# Altium schematic symbol library HW_ADHERENT_SYSCTRL_R1_L1.SchLib: 521 symbols (part 8 of 8)
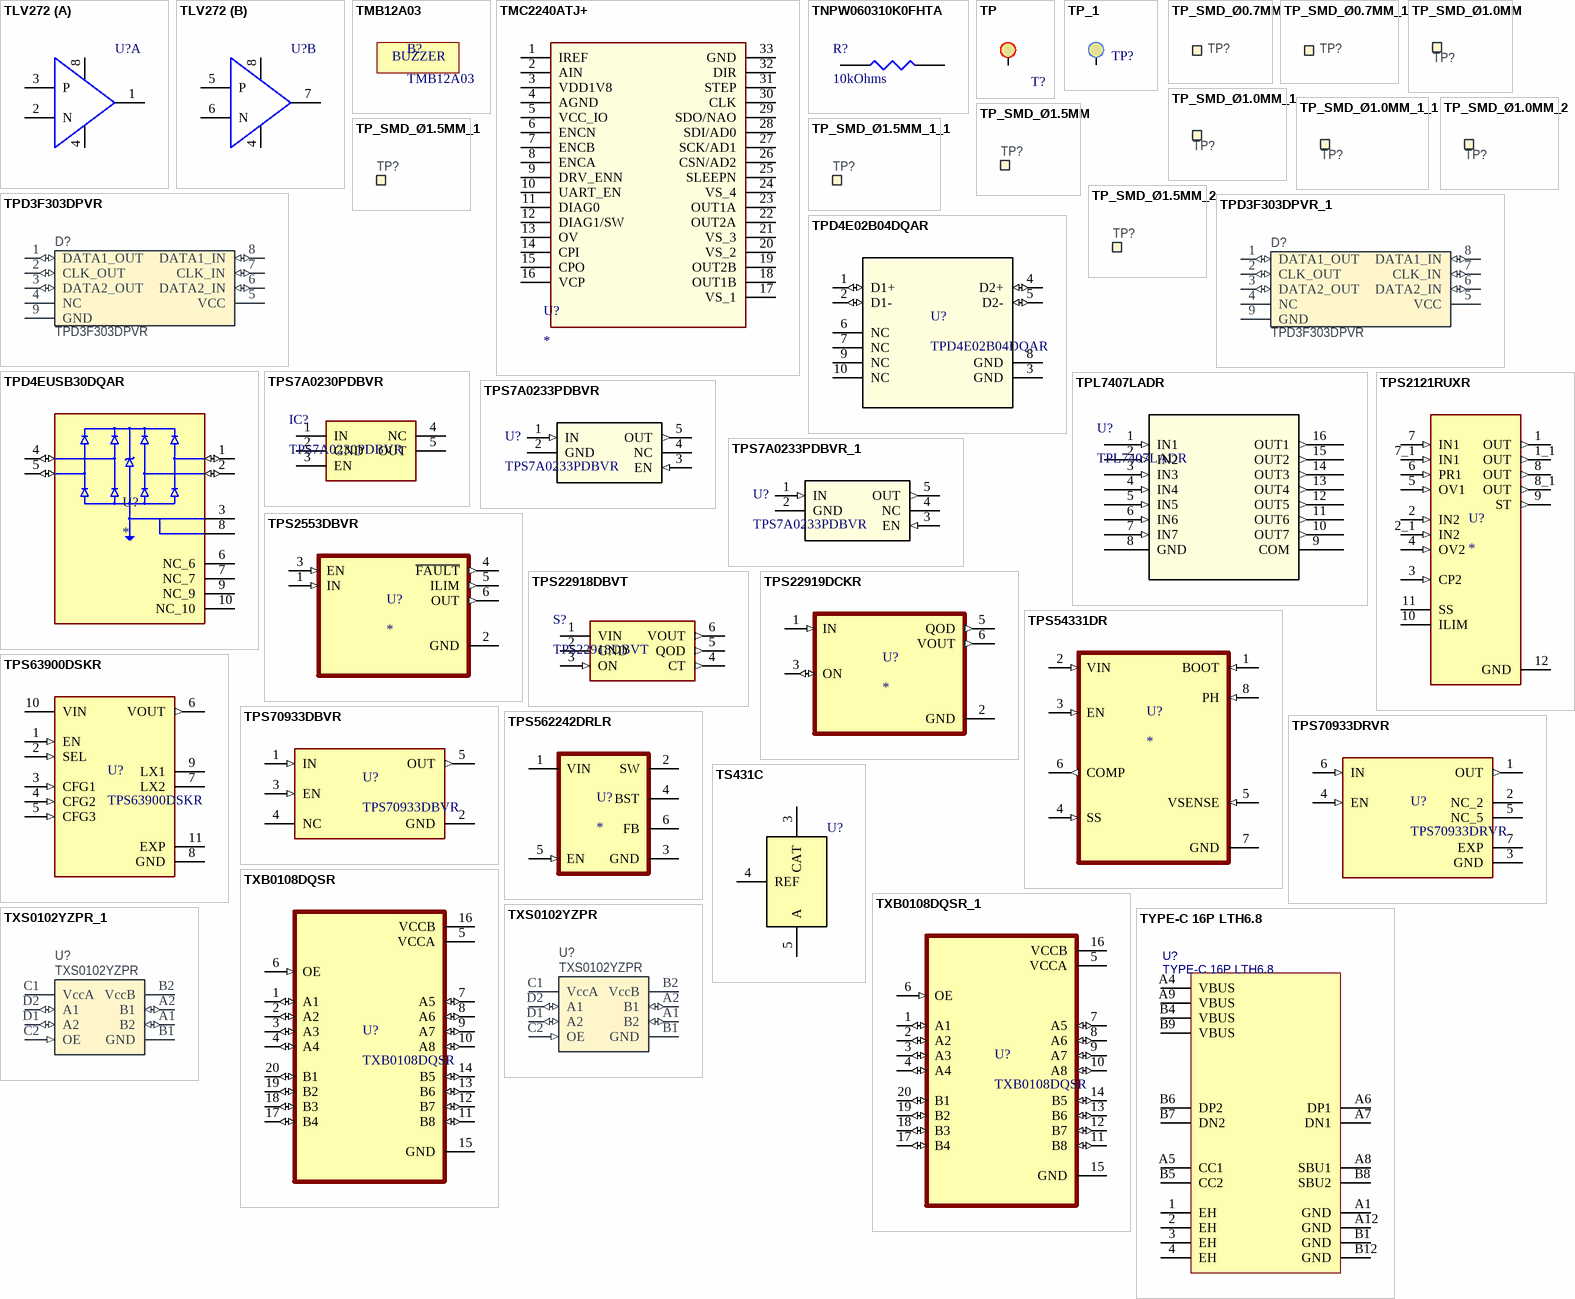
[diagram p22: symbols TLV272 to TYPE-C 16P LTH6.8]

## TP_SMD_Ø1.0MM_1_1
designator TP?, comment Ø1.0mm,SMD  (value not drawn)  (no BOM)
1.0mm circular SMD testpad; Part Number: TP_SMD_Ø1.0MM; Manufacturer: Nordic Semiconductor; Manufacturer Part Number: N.A.; Part number NEMS: 100500475; Pad Count: 1; Component Status: Active; System: Connector; PartId: 100500475; Component Class: Connectors; ComponentLink1URL: N.A.; ComponentLink1Description: Datasheet; ComponentLink2URL: N.A.; ComponentLink2Description: Supplier link; HelpURL: N.A.; Footprint Doc: TP_SMD_Ø1.0mm; LatestRevisionDate: 2021-03-05; Published: 2013-06-11; Value: Ø1.0mm,SMD; Note: N.A.; Supplier 1: N.A.; Supplier Part Number 1: N.A.; Supplier 2: N.A.; Supplier Part Number 2: N.A.; Artikkelnr Noca: N.A.; Part number IPS: N.A.; Author: rsk; Part number Norautron: N.A.
footprint TP_SMD_D1.0mm
pins: 1

## TP_SMD_Ø1.0MM_2
designator TP?, comment Ø1.0mm,SMD  (value not drawn)  (no BOM)
1.0mm circular SMD testpad; Part Number: TP_SMD_Ø1.0MM; Manufacturer: Nordic Semiconductor; Manufacturer Part Number: N.A.; Part number NEMS: 100500475; Pad Count: 1; Component Status: Active; PartId: 100500475; Component Class: Connectors; ComponentLink1URL: N.A.; ComponentLink1Description: Datasheet; ComponentLink2URL: N.A.; ComponentLink2Description: Supplier link; HelpURL: N.A.; Footprint Doc: TP_SMD_Ø1.0mm; LatestRevisionDate: 2021-03-05; Published: 2013-06-11; Value: Ø1.0mm,SMD; Note: N.A.; Supplier 1: N.A.; Supplier Part Number 1: N.A.; Supplier 2: N.A.; Supplier Part Number 2: N.A.; Artikkelnr Noca: N.A.; Part number IPS: N.A.; Author: rsk; Part number Norautron: N.A.
footprint TP_SMD_D1.0mm
pins: 1

## TP_SMD_Ø1.5MM
designator TP?, comment Ø1.5mm,SMD  (value not drawn)  (no BOM)
1.5mm circular SMD testpad; Part Number: TP_SMD_Ø1.5MM; Manufacturer: Nordic Semiconductor; Manufacturer Part Number: N.A.; Part number NEMS: 100500477; Pad Count: 1; Component Status: Active; Footprint Doc: TP_SMD_Ø1.5mm; LatestRevisionDate: 2021-03-05; Published: 2016-06-02; Value: Ø1.5mm,SMD; Note: N.A.; Artikkelnr Noca: N.A.; Part number IPS: N.A.; ComponentLink1URL: N.A.; ComponentLink1Description: Datasheet; ComponentLink2URL: N.A.; ComponentLink2Description: Supplier link; HelpURL: N.A.; Supplier 1: N.A.; Supplier Part Number 1: N.A.; Supplier 2: N.A.; Supplier Part Number 2: N.A.; PartId: 100500477; Component Class: Connectors; Author: rsk; Part number Norautron: N.A.
footprint TP_SMD_D1.5mm
pins: 1

## TP_SMD_Ø1.5MM_1
designator TP?, comment Ø1.5mm,SMD  (value not drawn)  (no BOM)
1.5mm circular SMD testpad; Part Number: TP_SMD_Ø1.5MM; Manufacturer: Nordic Semiconductor; Manufacturer Part Number: N.A.; Part number NEMS: 100500477; Pad Count: 1; Component Status: Active; System: Connector; Footprint Doc: TP_SMD_Ø1.5mm; LatestRevisionDate: 2021-03-05; Published: 2016-06-02; Value: Ø1.5mm,SMD; Note: N.A.; Artikkelnr Noca: N.A.; Part number IPS: N.A.; ComponentLink1URL: N.A.; ComponentLink1Description: Datasheet; ComponentLink2URL: N.A.; ComponentLink2Description: Supplier link; HelpURL: N.A.; Supplier 1: N.A.; Supplier Part Number 1: N.A.; Supplier 2: N.A.; Supplier Part Number 2: N.A.; PartId: 100500477; Component Class: Connectors; Author: rsk; Part number Norautron: N.A.
footprint TP_SMD_D1.5mm
pins: 1

## TP_SMD_Ø1.5MM_1_1
designator TP?, comment Ø1.5mm,SMD  (value not drawn)  (no BOM)
1.5mm circular SMD testpad; Part Number: TP_SMD_Ø1.5MM; Manufacturer: Nordic Semiconductor; Manufacturer Part Number: N.A.; Part number NEMS: 100500477; Pad Count: 1; Component Status: Active; System: Connector; Footprint Doc: TP_SMD_Ø1.5mm; LatestRevisionDate: 2021-03-05; Published: 2016-06-02; Value: Ø1.5mm,SMD; Note: N.A.; Artikkelnr Noca: N.A.; Part number IPS: N.A.; ComponentLink1URL: N.A.; ComponentLink1Description: Datasheet; ComponentLink2URL: N.A.; ComponentLink2Description: Supplier link; HelpURL: N.A.; Supplier 1: N.A.; Supplier Part Number 1: N.A.; Supplier 2: N.A.; Supplier Part Number 2: N.A.; PartId: 100500477; Component Class: Connectors; Author: rsk; Part number Norautron: N.A.
footprint TP_SMD_D1.5mm
pins: 1

## TP_SMD_Ø1.5MM_2
designator TP?, comment Ø1.5mm,SMD  (value not drawn)  (no BOM)
1.5mm circular SMD testpad; Part Number: TP_SMD_Ø1.5MM; Manufacturer: Nordic Semiconductor; Manufacturer Part Number: N.A.; Part number NEMS: 100500477; Pad Count: 1; Component Status: Active; Footprint Doc: TP_SMD_Ø1.5mm; LatestRevisionDate: 2021-03-05; Published: 2016-06-02; Value: Ø1.5mm,SMD; Note: N.A.; Artikkelnr Noca: N.A.; Part number IPS: N.A.; ComponentLink1URL: N.A.; ComponentLink1Description: Datasheet; ComponentLink2URL: N.A.; ComponentLink2Description: Supplier link; HelpURL: N.A.; Supplier 1: N.A.; Supplier Part Number 1: N.A.; Supplier 2: N.A.; Supplier Part Number 2: N.A.; PartId: 100500477; Component Class: Connectors; Author: rsk; Part number Norautron: N.A.
footprint TP_SMD_D1.5mm
pins: 1

## TPD3F303DPVR
designator D?
ESD Protection and EMI Filter for SIM Card Interface; Manufacturer: Texas Instruments; Part number NEMS: 101900729; Note: N.A.; Pad Count: 8; Component Status: Active; Part Number: TPD3F303DPVR; Manufacturer Part Number: TPD3F303DPVR; Footprint Doc: USON-8; LatestRevisionDate: 2022-10-19; Published: 2022-10-19; Value: TPD3F303DPVR; Artikkelnr Noca: N.A.; ComponentLink1URL: https://www.ti.com/lit/ds/symlink/tpd3f303.pdf; ComponentLink1Description: Datasheet; ComponentLink2URL: https://www.digikey.com/en/products/detail/texas-instruments/TPD3F303DPVR/2605055; ComponentLink2Description: Supplier link; HelpURL: https://www.ti.com/product/TPD3F303/part-details/TPD3F303DPVR; Supplier 1: Digi-Key; Supplier Part Number 1: 296-28299-1-ND; Supplier 2: Mouser; Supplier Part Number 2: 595-TPD3F303DPVR; Part number IPS: N.A.; PartId: 101900729; Component Class: Misc_ICs; Author: rubr; Part number Norautron: N.A.
footprint SON50P210X160X65_HS-9N
pins: 1 DATA1_OUT (io), 2 CLK_OUT (io), 3 DATA2_OUT (io), 4 NC, 5 VCC (power), 6 DATA2_IN (io), 7 CLK_IN (io), 8 DATA1_IN (io), 9 GND (power)

## TPD3F303DPVR_1
designator D?, comment TPD3F303DPVR
ESD Protection and EMI Filter for SIM Card Interface; Manufacturer: Texas Instruments; Part number NEMS: 101900729; Note: N.A.; Pad Count: 8; Component Status: Active; Part Number: TPD3F303DPVR; Manufacturer Part Number: TPD3F303DPVR; Footprint Doc: USON-8; LatestRevisionDate: 2022-10-19; Published: 2022-10-19; Value: TPD3F303DPVR; Artikkelnr Noca: N.A.; ComponentLink1URL: https://www.ti.com/lit/ds/symlink/tpd3f303.pdf; ComponentLink1Description: Datasheet; ComponentLink2URL: https://www.digikey.com/en/products/detail/texas-instruments/TPD3F303DPVR/2605055; ComponentLink2Description: Supplier link; HelpURL: https://www.ti.com/product/TPD3F303/part-details/TPD3F303DPVR; Supplier 1: Digi-Key; Supplier Part Number 1: 296-28299-1-ND; Supplier 2: Mouser; Supplier Part Number 2: 595-TPD3F303DPVR; Part number IPS: N.A.; PartId: 101900729; Component Class: Misc_ICs; Author: rubr; Part number Norautron: N.A.
footprint SON50P210X160X65_HS-9N
pins: 1 DATA1_OUT (io), 2 CLK_OUT (io), 3 DATA2_OUT (io), 4 NC, 5 VCC (power), 6 DATA2_IN (io), 7 CLK_IN (io), 8 DATA1_IN (io), 9 GND (power)

## TPD4E02B04DQAR
designator U?
Quad 0.25-pF, Â±3.6-V, Â±12-kV ESD protection diode for USB 3.0,  HDMI 2.0 & High Speed Signals 10-USON -40 to 125; Manufacturer_Name: Texas Instruments; CompType: IC; TYPE: TYPE; RefDes: RefDes; Copyright: Copyright (C) 2025 Ultra Librarian. All rights reserved.; Manufacturer_Part_Number: TPD4E02B04DQAR; Application_BuildNumber: *; PartNumber: TPD4E02B04DQAR; PackageReference: DQA0010A; MountType: SMT; RoHS: Y; Manufacturer: Texas Instruments
footprint DQA0010A
pins: 1 D1+ (io), 2 D1- (io), 3 GND (power), 4 D2+ (io), 5 D2- (io), 6 NC, 7 NC, 8 GND (power), 9 NC, 10 NC

## TPD4EUSB30DQAR
designator U?
4-channel ESD solution for SuperSpeed (6 Gbps) USB 3.0 interface 10-USON -40 to 85; MP: TPD4EUSB30DQAR; Value: *; Package: None; Price: None; Availability: Unavailable
footprint IC_TPD4EUSB30DQAR
pins: 1 D1+ (io), 2 D1- (io), 3 GND_3 (power), 4 D2+ (io), 5 D2- (io), 6 NC_6, 7 NC_7, 8 GND_8 (power), 9 NC_9, 10 NC_10

## TPL7407LADR
designator U?
30-V, 7-ch NMOS array low-side driver 16-SOIC -40 to 125; Manufacturer_Name: Texas Instruments; Copyright: Copyright (C) 2026 Ultra Librarian. All rights reserved.; Manufacturer_Part_Number: TPL7407LADR; Datasheet: https://www.ti.com/lit/gpn/tpl7407la; RefDes: RefDes; Type: Type
footprint D16_TEX
pins: 1 IN1 (in), 2 IN2 (in), 3 IN3 (in), 4 IN4 (in), 5 IN5 (in), 6 IN6 (in), 7 IN7 (in), 8 GND (power), 9 COM, 10 OUT7 (out), 11 OUT6 (out), 12 OUT5 (out), 13 OUT4 (out), 14 OUT3 (out), 15 OUT2 (out), 16 OUT1 (out)

## TPS7A0230PDBVR
designator IC?
Linear Voltage Regulator IC Positive Fixed 1 Output 200mA SOT-23-5; Manufacturer_Name: Texas Instruments; Datasheet Link: https://www.ti.com/lit/gpn/TPS7A02; Height: 1.45mm; Manufacturer_Part_Number: TPS7A0230PDBVR; Mouser Part Number: 595-TPS7A0230PDBVR; Mouser Price/Stock: https://www.mouser.co.uk/ProductDetail/Texas-Instruments/TPS7A0230PDBVR?qs=OlC7AqGiEDnndYJaykm%252BtA%3D%3D; Arrow Part Number: TPS7A0230PDBVR; Arrow Price/Stock: https://www.arrow.com/en/products/tps7a0230pdbvr/texas-instruments?utm_currency=USD&region=nac
footprint SOT95P280X145-5N
pins: 1 IN, 2 GND, 3 EN, 4 NC, 5 OUT

## TPS7A0233PDBVR
designator U?
200mA, nanopower-IQ (25 nA), low-dropout (LDO) voltage regulator with enable 5-SOT-23 -40 to 125; Manufacturer_Name: Texas Instruments; Copyright: Copyright (C) 2025 Ultra Librarian. All rights reserved.; Manufacturer_Part_Number: TPS7A0233PDBVR; RefDes: RefDes; Type: Type
footprint SOT23_DBV_TEX
pins: 1 IN (in), 2 GND (power), 3 EN (in), 4 NC, 5 OUT (out)

## TPS7A0233PDBVR_1
designator U?, comment TPS7A0233PDBVR
200mA, nanopower-IQ (25 nA), low-dropout (LDO) voltage regulator with enable 5-SOT-23 -40 to 125; Manufacturer_Name: Texas Instruments; Copyright: Copyright (C) 2025 Ultra Librarian. All rights reserved.; Manufacturer_Part_Number: TPS7A0233PDBVR; RefDes: RefDes; Type: Type
footprint SOT23_DBV_TEX
pins: 1 IN (in), 2 GND (power), 3 EN (in), 4 NC, 5 OUT (out)

## TPS2121RUXR
designator U?
2.7-V&nbsp;to 22-V, 56-mâ„¦, 4.5-A, power mux with seamless switchover; MF: Texas Instruments; MP: TPS2121RUXR; Package: VQFN-HR-12 Texas Instruments; Price: None; Check_prices: https://www.snapeda.com/parts/TPS2121RUXR/Texas+Instruments/view-part/?ref=eda; Value: *; SnapEDA_Link: https://www.snapeda.com/parts/TPS2121RUXR/Texas+Instruments/view-part/?ref=snap; Availability: In Stock; Purchase-URL: https://pricing.snapeda.com/search?q=TPS2121RUXR&ref=eda
footprint IC_TPS2121RUXR
pins: 1 OUT (out), 1_1 OUT (out), 2 IN2 (in), 2_1 IN2 (in), 3 CP2 (in), 4 OV2 (in), 5 OV1 (in), 6 PR1 (in), 7 IN1 (in), 7_1 IN1 (in), 8 OUT (out), 8_1 OUT (out), 9 ST (out), 10 ILIM, 11 SS, 12 GND (power)

## TPS2553DBVR
designator U?
0.075-1.7A adj. ILIMIT, 2.5-6.5V, 85mÎ© USB power switch, active-high, reverse blocking; MF: Texas Instruments; MP: TPS2553DBVR; SnapEDA_Link: https://www.snapeda.com/parts/TPS2553DBVR/Texas+Instruments/view-part/?ref=snap; Package: SOT-23-6 Texas Instruments; Value: *; Check_prices: https://www.snapeda.com/parts/TPS2553DBVR/Texas+Instruments/view-part/?ref=eda
footprint SOT95P280X145-6N
pins: 1 IN (in), 2 GND (power), 3 EN (in), 4 ~{FAULT} (out), 5 ILIM (out), 6 OUT (out)

## TPS22918DBVT
designator S?
Power Switch/Driver 1:1 N-Channel 2A SOT-23-6; Manufacturer_Name: Texas Instruments; Datasheet Link: http://www.ti.com/lit/gpn/tps22918; Height: 1.45mm; Manufacturer_Part_Number: TPS22918DBVT; Mouser Part Number: 595-TPS22918DBVT; Mouser Price/Stock: https://www.mouser.co.uk/ProductDetail/Texas-Instruments/TPS22918DBVT?qs=f4l5qYp%2Fy%252B5OmR4LO0ZvPg%3D%3D; Arrow Part Number: TPS22918DBVT; Arrow Price/Stock: https://www.arrow.com/en/products/tps22918dbvt/texas-instruments.html?utm_currency=USD&region=nac
footprint SOT95P280X145-6N
pins: 1 VIN (power), 2 GND (power), 3 ON (in), 4 CT (out), 5 QOD (out), 6 VOUT (out)

## TPS22919DCKR
designator U?
5.5-V, 1.5-A, 90-mÎ© load switch with adj. output discharge; MF: Texas Instruments; MP: TPS22919DCKR; SnapEDA_Link: https://www.snapeda.com/parts/TPS22919DCKR/Texas+Instruments/view-part/?ref=snap; Package: SOT-SC70-6 Texas Instruments; Value: *; Check_prices: https://www.snapeda.com/parts/TPS22919DCKR/Texas+Instruments/view-part/?ref=eda
footprint SOT65P210X110-6N
pins: 1 IN (in), 2 GND (power), 3 ON (io), 5 QOD (out), 6 VOUT (out)

## TPS54331DR
designator U?
3.5V to 28V Input, 3A, 570kHz Step-Down Converter with Eco-mode; MF: Texas Instruments; MP: TPS54331DR; Purchase-URL: https://pricing.snapeda.com/search/part/TPS54331DR/?ref=eda; Package: SOIC-8 Texas Instruments; Price: None; Availability: In Stock; Value: *
footprint SOIC127P599X175-8N
pins: 1 BOOT (in), 2 VIN (in), 3 EN (in), 4 SS (in), 5 VSENSE (in), 6 COMP (out), 7 GND (power), 8 PH (in)

## TPS63900DSKR
designator U?
1.8-V to 5.5-V, 75-nA IQ buck-boost converter with input current limit and Dynamic Voltage Scaling; MF: Texas Instruments; SnapEDA_Link: https://www.snapeda.com/parts/TPS63900DSKR/Texas+Instruments/view-part/?ref=snap; Package: WSON-10 Texas Instruments; Value: *; MP: TPS63900DSKR; Check_prices: https://www.snapeda.com/parts/TPS63900DSKR/Texas+Instruments/view-part/?ref=eda
footprint IC_TPS63900DSKR
pins: 1 EN (in), 2 SEL (in), 3 CFG1 (in), 4 CFG2 (in), 5 CFG3 (in), 6 VOUT (out), 7 LX2, 8 GND (power), 9 LX1, 10 VIN (power), 11 EXP (power)

## TPS70933DBVR
designator U?
150-mA, 30-V, ultra-low-IQ, low-dropout voltage regulator with reverse current protection and enable; MF: Texas Instruments; SnapEDA_Link: https://www.snapeda.com/parts/TPS70933DBVR/Texas+Instruments/view-part/?ref=snap; Package: SOT-23-5 Texas Instruments; Value: *; MP: TPS70933DBVR; Check_prices: https://www.snapeda.com/parts/TPS70933DBVR/Texas+Instruments/view-part/?ref=eda; LCSC: C89347
footprint SOT95P280X145-5N
pins: 1 IN (in), 2 GND (power), 3 EN (in), 4 NC, 5 OUT (out)

## TPS70933DRVR
designator U?
150-mA, 30-V, ultra-low-IQ, low-dropout voltage regulator with reverse current protection and enable; MF: Texas Instruments; SnapEDA_Link: https://www.snapeda.com/parts/TPS70933DRVR/Texas+Instruments/view-part/?ref=snap; Package: WSON-6 Texas Instruments; Value: *; MP: TPS70933DRVR; Check_prices: https://www.snapeda.com/parts/TPS70933DRVR/Texas+Instruments/view-part/?ref=eda; LCSC: C165164
footprint SON65P200X200X80-7N
pins: 1 OUT (out), 2 NC_2, 3 GND (power), 4 EN (in), 5 NC_5, 6 IN (in), 7 EXP (power)

## TPS562242DRLR
designator U?
3-V to 17-V input voltage, 2-A, 1.4-MHz synchronous buck converter in SOT563; MF: Texas Instruments; MP: TPS562242DRLR; SnapEDA_Link: https://www.snapeda.com/parts/TPS562242DRLR/Texas+Instruments/view-part/?ref=snap; Package: SOT-5X3-6 Texas Instruments; Value: *; Check_prices: https://www.snapeda.com/parts/TPS562242DRLR/Texas+Instruments/view-part/?ref=eda
footprint SOT50P160X60-6N
pins: 1 VIN (power), 2 SW (power), 3 GND (power), 4 BST, 5 EN (in), 6 FB

## TS431C
designator U?
footprint SOT-25
pins: 3 CAT, 4 REF, 5 A

## TXB0108DQSR
designator U?
8-Bit Bidirectional Voltage-Level Shifter with Auto Direction Sensing and +/-15-kV ESD Protect 20-USON -40 to 85; MF: Texas Instruments; Availability: In Stock; Value: *; Check_prices: https://www.snapeda.com/parts/TXB0108DQSR/Texas+Instruments/view-part/?ref=eda; SnapEDA_Link: https://www.snapeda.com/parts/TXB0108DQSR/Texas+Instruments/view-part/?ref=snap; Price: None; Purchase-URL: https://pricing.snapeda.com/search/part/TXB0108DQSR/?ref=eda; Package: SON-20 Texas Instruments; MP: TXB0108DQSR
footprint SON40P400X200X55-20N
pins: 1 A1 (io), 2 A2 (io), 3 A3 (io), 4 A4 (io), 5 VCCA (power), 6 OE (in), 7 A5 (io), 8 A6 (io), 9 A7 (io), 10 A8 (io), 11 B8 (io), 12 B7 (io), 13 B6 (io), 14 B5 (io), 15 GND (power), 16 VCCB (power), 17 B4 (io), 18 B3 (io), 19 B2 (io), 20 B1 (io)

## TXB0108DQSR_1
designator U?, comment TXB0108DQSR
8-Bit Bidirectional Voltage-Level Shifter with Auto Direction Sensing and +/-15-kV ESD Protect 20-USON -40 to 85; MF: Texas Instruments; Availability: In Stock; Value: *; Check_prices: https://www.snapeda.com/parts/TXB0108DQSR/Texas+Instruments/view-part/?ref=eda; SnapEDA_Link: https://www.snapeda.com/parts/TXB0108DQSR/Texas+Instruments/view-part/?ref=snap; Price: None; Purchase-URL: https://pricing.snapeda.com/search/part/TXB0108DQSR/?ref=eda; Package: SON-20 Texas Instruments; MP: TXB0108DQSR
footprint SON40P400X200X55-20N
pins: 1 A1 (io), 2 A2 (io), 3 A3 (io), 4 A4 (io), 5 VCCA (power), 6 OE (in), 7 A5 (io), 8 A6 (io), 9 A7 (io), 10 A8 (io), 11 B8 (io), 12 B7 (io), 13 B6 (io), 14 B5 (io), 15 GND (power), 16 VCCB (power), 17 B4 (io), 18 B3 (io), 19 B2 (io), 20 B1 (io)

## TXS0102YZPR
designator U?
Voltage Level Translator Bidirectional 1 Circuit 2 Channel 24Mbps 8-DSBGA; Manufacturer: Texas Instruments; Part number NEMS: 101900724; Pad Count: 8; Note: TEXAS INSTRUMENTS - TXS0102YZTR - IC, TRANSLATOR; Artikkelnr Noca: N.A.; Component Status: Active; Part Number: TXS0102YZPR; Component Class: Misc_ICs; Author: rsk; Manufacturer Part Number: TXS0102YZPR; ComponentLink1URL: https://www.ti.com/lit/gpn/txs0102; ComponentLink1Description: Datasheet; ComponentLink2URL: https://www.digikey.com/en/products/detail/texas-instruments/TXS0102YZPR/1629105; ComponentLink2Description: Supplier link; HelpURL: https://www.ti.com/product/TXS0102; Footprint Doc: UFBGA-8; LatestRevisionDate: 2022-10-05; Published: 2022-10-05; Value: TXS0102YZPR; Supplier 1: Digi-Key; Supplier Part Number 1: 296-TXS0102YZPRCT-ND; Supplier 2: Mouser; Supplier Part Number 2: 595-TXS0102YZPR; Part number IPS: N.A.; Part number Norautron: N.A.; PartId: 101900724
footprint BGA8C50P2X4_89X189X50
pins: A1 B2 (io) "SDA_B", A2 B1 (io) "SCL_B", B1 GND (power), B2 VccB (power) "B port Vcc", C1 VccA (power) "A port power", C2 OE (in) "Enable (OE) with respect to VccA. Max 4.6V", D1 A2 (io) "SDA_A", D2 A1 (io) "SCL_A"

## TXS0102YZPR_1
designator U?, comment TXS0102YZPR
Voltage Level Translator Bidirectional 1 Circuit 2 Channel 24Mbps 8-DSBGA; Manufacturer: Texas Instruments; Part number NEMS: 101900724; Pad Count: 8; Note: TEXAS INSTRUMENTS - TXS0102YZTR - IC, TRANSLATOR; Artikkelnr Noca: N.A.; Component Status: Active; Part Number: TXS0102YZPR; Component Class: Misc_ICs; Author: rsk; Manufacturer Part Number: TXS0102YZPR; ComponentLink1URL: https://www.ti.com/lit/gpn/txs0102; ComponentLink1Description: Datasheet; ComponentLink2URL: https://www.digikey.com/en/products/detail/texas-instruments/TXS0102YZPR/1629105; ComponentLink2Description: Supplier link; HelpURL: https://www.ti.com/product/TXS0102; Footprint Doc: UFBGA-8; LatestRevisionDate: 2022-10-05; Published: 2022-10-05; Value: TXS0102YZPR; Supplier 1: Digi-Key; Supplier Part Number 1: 296-TXS0102YZPRCT-ND; Supplier 2: Mouser; Supplier Part Number 2: 595-TXS0102YZPR; Part number IPS: N.A.; Part number Norautron: N.A.; PartId: 101900724
footprint BGA8C50P2X4_89X189X50
pins: A1 B2 (io) "SDA_B", A2 B1 (io) "SCL_B", B1 GND (power), B2 VccB (power) "B port Vcc", C1 VccA (power) "A port power", C2 OE (in) "Enable (OE) with respect to VccA. Max 4.6V", D1 A2 (io) "SDA_A", D2 A1 (io) "SCL_A"

## TYPE-C 16P LTH6.8
designator U?
Manufacturer: SHOU HAN(首韩); Contributor: lcsc; Supplier: LCSC; Supplier Part: C5187468; Manufacturer Part: TYPE-C 16P LTH6.8; JLCPCB Part Class: Extended Part; spicePre: U; spiceSymbolName: TYPE-C 16P LTH6.8; LCSC: C5187468
footprint USB-C-SMD_TYPE-C-16P-LTH6.8
pins: 1 EH, 2 EH, 3 EH, 4 EH, A1 GND, A4 VBUS, A5 CC1, A6 DP1, A7 DN1, A8 SBU1, A9 VBUS, A12 GND, B1 GND, B4 VBUS, B5 CC2, B6 DP2, B7 DN2, B8 SBU2, B9 VBUS, B12 GND

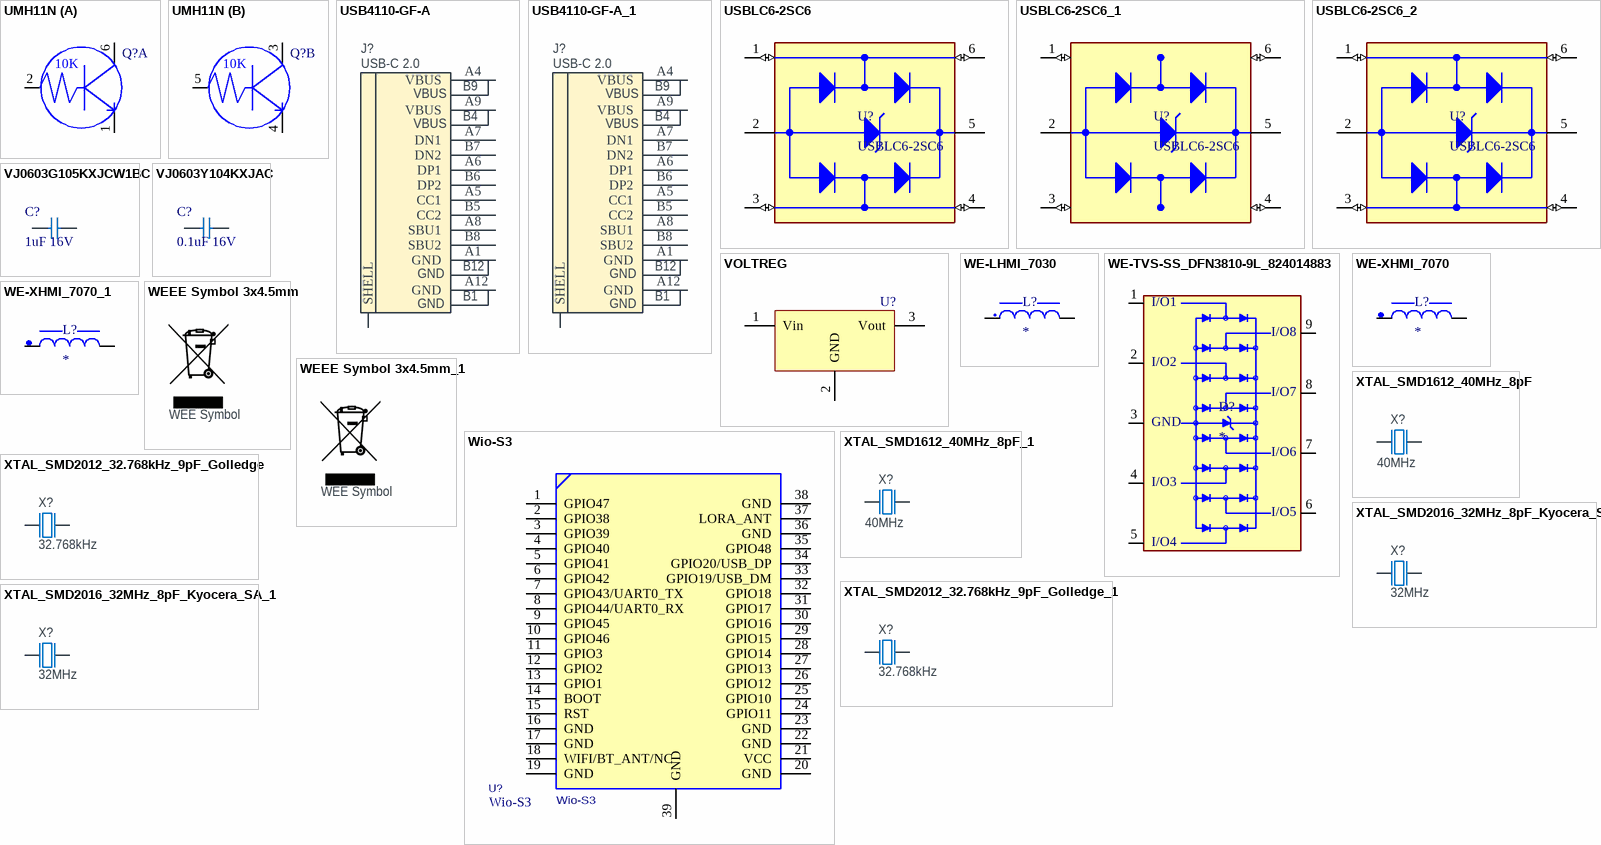
[diagram p15: symbols UMH11N to XTAL_SMD2016_32MHz_8pF_Kyocera_SA_1]

## UMH11N
designator Q?
footprint SOT-363
part A pins: 1 E, 2 B, 6 C
part B pins: 3 C, 4 E, 5 B
part A text: 10K
part B text: 10K

## USB4110-GF-A
designator J?, comment USB-C 2.0
USB-C Receptacle, 16 Pin, USB 2.0; Part Number: USB4110-GF-A; Manufacturer: Global Connector Technology; Part number NEMS: 100500735; Pad Count: 16; Note: N.A.; Component Status: Active; System: Connector; Component Class: Connectors; Manufacturer Part Number: USB4110-GF-A; ComponentLink1URL: https://gct.co/files/drawings/usb4110.pdf; ComponentLink1Description: Datasheet; ComponentLink2URL: https://www.digikey.com/en/products/detail/gct/USB4110-GF-A/10384547; ComponentLink2Description: Supplier link; HelpURL: https://gct.co/connector/usb4110; Footprint Doc: USB4110; LatestRevisionDate: 2021-12-06; Published: 2021-12-06; Value: USB-C 2.0; Supplier 1: Digi-Key; Supplier Part Number 1: 2073-USB4110-GF-A-1-ND; Supplier 2: N.A.; Supplier Part Number 2: N.A.; Artikkelnr Noca: N.A.; Part number IPS: N.A.; Author: rubr; Part number Norautron: N.A.; PartId: 100500735
footprint USB4110
pins: A1 GND (power), A4 VBUS (power), A5 CC1, A6 DP1, A7 DN1, A8 SBU1, A9 VBUS (power), A12 GND (power), B5 CC2, B6 DP2, B7 DN2, B8 SBU2, SHLD SHELL (power)
text: B9; B4; B12; B1

## USB4110-GF-A_1
designator J?, comment USB-C 2.0
USB-C Receptacle, 16 Pin, USB 2.0; Part Number: USB4110-GF-A; Manufacturer: Global Connector Technology; Part number NEMS: 100500735; Pad Count: 16; Note: N.A.; Component Status: Active; System: Connector; Component Class: Connectors; Manufacturer Part Number: USB4110-GF-A; ComponentLink1URL: https://gct.co/files/drawings/usb4110.pdf; ComponentLink1Description: Datasheet; ComponentLink2URL: https://www.digikey.com/en/products/detail/gct/USB4110-GF-A/10384547; ComponentLink2Description: Supplier link; HelpURL: https://gct.co/connector/usb4110; Footprint Doc: USB4110; LatestRevisionDate: 2021-12-06; Published: 2021-12-06; Value: USB-C 2.0; Supplier 1: Digi-Key; Supplier Part Number 1: 2073-USB4110-GF-A-1-ND; Supplier 2: N.A.; Supplier Part Number 2: N.A.; Artikkelnr Noca: N.A.; Part number IPS: N.A.; Author: rubr; Part number Norautron: N.A.; PartId: 100500735
footprint USB4110
pins: A1 GND (power), A4 VBUS (power), A5 CC1, A6 DP1, A7 DN1, A8 SBU1, A9 VBUS (power), A12 GND (power), B5 CC2, B6 DP2, B7 DN2, B8 SBU2, SHLD SHELL (power)
text: B9; B4; B12; B1

## USBLC6-2SC6
designator U?
17V Clamp 5A (8/20Âµs) Ipp Tvs Diode Surface Mount SOT-23-6; MF: STMicroelectronics; Value: *; SnapEDA_Link: https://www.snapeda.com/parts/USBLC6-2SC6/STMicroelectronics/view-part/?ref=snap; Check_prices: https://www.snapeda.com/parts/USBLC6-2SC6/STMicroelectronics/view-part/?ref=eda; Purchase-URL: https://pricing.snapeda.com/search/part/USBLC6-2SC6/?ref=eda; Price: None; Availability: In Stock; Package: SOT-23-6 STMicroelectronics; MP: USBLC6-2SC6
footprint SOT95P280X145-6N
pins: 1 I/O1_IN (io), 2 GND (power), 3 I/O2_IN (io), 4 I/O2_OUT (io), 5 VBUS (power), 6 I/O1_OUT (io)

## USBLC6-2SC6_1
designator U?, comment USBLC6-2SC6
17V Clamp 5A (8/20Âµs) Ipp Tvs Diode Surface Mount SOT-23-6; MF: STMicroelectronics; Value: *; SnapEDA_Link: https://www.snapeda.com/parts/USBLC6-2SC6/STMicroelectronics/view-part/?ref=snap; Check_prices: https://www.snapeda.com/parts/USBLC6-2SC6/STMicroelectronics/view-part/?ref=eda; Purchase-URL: https://pricing.snapeda.com/search/part/USBLC6-2SC6/?ref=eda; Price: None; Availability: In Stock; Package: SOT-23-6 STMicroelectronics; MP: USBLC6-2SC6; LCSC: C7519
footprint SOT95P280X145-6N
pins: 1 I/O1_IN (io), 2 GND (power), 3 I/O2_IN (io), 4 I/O2_OUT (io), 5 VBUS (power), 6 I/O1_OUT (io)

## USBLC6-2SC6_2
designator U?, comment USBLC6-2SC6
17V Clamp 5A (8/20Âµs) Ipp Tvs Diode Surface Mount SOT-23-6; MF: STMicroelectronics; Value: *; SnapEDA_Link: https://www.snapeda.com/parts/USBLC6-2SC6/STMicroelectronics/view-part/?ref=snap; Check_prices: https://www.snapeda.com/parts/USBLC6-2SC6/STMicroelectronics/view-part/?ref=eda; Purchase-URL: https://pricing.snapeda.com/search/part/USBLC6-2SC6/?ref=eda; Price: None; Availability: In Stock; Package: SOT-23-6 STMicroelectronics; MP: USBLC6-2SC6
footprint SOT95P280X145-6N
pins: 1 I/O1_IN (io), 2 GND (power), 3 I/O2_IN (io), 4 I/O2_OUT (io), 5 VBUS (power), 6 I/O1_OUT (io)

## VJ0603G105KXJCW1BC
designator C?, comment 1uF 16V
Multilayer Ceramic Capacitors MLCC - SMD/SMT 0603 1.0uF 16volts X5R 10%
footprint CAPC1608X100N
pins: 1, 2

## VJ0603Y104KXJAC
designator C?, comment 0.1uF 16V
0.1 µF ±10% 16V Ceramic Capacitor X7R 0603 (1608 Metric); Manufacturer: Vishay Vitramon; Supplier: Digi; 720-1377-6-ND
footprint CAPC1608X100N
pins: 1, 2

## VOLTREG
designator U?
footprint NCP1117
pins: 1 Vin, 2 GND, 3 Vout

## WE-LHMI_7030
designator L?
Size 7030; L = 2.2 ÂµH ; IR = 6.5 A; Isat = 19,1 A; RDC = 20.0 mâ„¦; MF: Wurth Electronics; MP: 74437346022; SnapEDA_Link: https://www.snapeda.com/parts/74437346022/Wurth+Electronics/view-part/?ref=snap; Package: Nonstandard Wurth Electronics; Value: *; Check_prices: https://www.snapeda.com/parts/74437346022/Wurth+Electronics/view-part/?ref=eda
footprint WE-LHMI_7030
pins: 1, 2

## WE-TVS-SS_DFN3810-9L_824014883
designator D?
ESD Protection Diodes / TVS Diodes WE-TVS Diode Array 3.3V 0.5pF 8Channel; MF: WÃ¼rth Elektronik; MP: 824014883; SnapEDA_Link: https://www.snapeda.com/parts/824014883/W%25C3%25BCrth+Elektronik+Midcom/view-part/?ref=snap; Package: UDFN-9 Wurth Electronics Inc.; Value: *; Check_prices: https://www.snapeda.com/parts/824014883/W%25C3%25BCrth+Elektronik+Midcom/view-part/?ref=eda
footprint WE-TVS_DFN3810-9L
pins: 1, 2, 3 GND, 4, 5, 6, 7, 8, 9
text: I/O1; I/O8; I/O2; I/O7; I/O6; I/O3; I/O5; I/O4

## WE-XHMI_7070
designator L?
4.7 ÂµH Shielded Molded Inductor 15 A 11.52mOhm Max Nonstandard; MF: WÃ¼rth Elektronik; MP: 74439387047; SnapEDA_Link: https://www.snapeda.com/parts/74439387047/W%25C3%25BCrth+Elektronik+Midcom/view-part/?ref=snap; Package: None; Value: *; Check_prices: https://www.snapeda.com/parts/74439387047/W%25C3%25BCrth+Elektronik+Midcom/view-part/?ref=eda
footprint WE-XHMI_7070
pins: 1, 2

## WE-XHMI_7070_1
designator L?
MF: {'manufacturer': u'Wurth Elektronik'}; MP: 74439387033; Package: None; Price: None; Value: *; Availability: Unavailable
footprint WE-XHMI_7070
pins: 1, 2

## WEEE Symbol 3x4.5mm
designator LOGO?, comment WEE Symbol  (no BOM)
WEEE Directive symbol; Part Number: WEEE Symbol 3x4.5mm; Manufacturer: N.A.; Part number NEMS: 101100006; Component Status: Active; Pad Count: 0; PartId: 101100006; Component Class: Markings; Author: rsk; Manufacturer Part Number: N.A.; ComponentLink1URL: N.A.; ComponentLink1Description: Datasheet; ComponentLink2URL: N.A.; ComponentLink2Description: Supplier link; HelpURL: N.A.; LatestRevisionDate: 2023-03-07; Published: 2016-09-07; Footprint Doc: WEE_3x4.5mm; Value: WEE Symbol; Note: N.A.; Supplier 1: N.A.; Supplier Part Number 1: N.A.; Supplier 2: N.A.; Supplier Part Number 2: N.A.; Artikkelnr Noca: N.A.; Part number IPS: N.A.; Part number Norautron: N.A.
footprint WEE_3x4.5mm

## WEEE Symbol 3x4.5mm_1
designator LOGO?, comment WEE Symbol  (no BOM)
WEEE Directive symbol; Part Number: WEEE Symbol 3x4.5mm; Manufacturer: N.A.; Part number NEMS: 101100006; Component Status: Active; Pad Count: 0; PartId: 101100006; Component Class: Markings; Author: rsk; Manufacturer Part Number: N.A.; ComponentLink1URL: N.A.; ComponentLink1Description: Datasheet; ComponentLink2URL: N.A.; ComponentLink2Description: Supplier link; HelpURL: N.A.; LatestRevisionDate: 2023-03-07; Published: 2016-09-07; Footprint Doc: WEE_3x4.5mm; Value: WEE Symbol; Note: N.A.; Supplier 1: N.A.; Supplier Part Number 1: N.A.; Supplier 2: N.A.; Supplier Part Number 2: N.A.; Artikkelnr Noca: N.A.; Part number IPS: N.A.; Part number Norautron: N.A.
footprint WEE_3x4.5mm

## Wio-S3
designator U?
Wio-S3 Wireless Module with IPEX, ESP32-S3R8, Dual-core Xtensa® LX7 and SX1262 embedded, LoRaWAN, Wi-Fi & BLE, supports EU868 & US915; Manufacturer: Seeed studio; ComponentLink1Description: Link; ComponentLink1URL: https://www.seeedstudio.com/Wio-S3-Wireless-Module-p-6832.html?srsltid=AfmBOop3z2puFIgpzJuIDsBW-HEr5_UZiePaRCy9CC_ZfHXp9n51kjKs; MPN: Wio-S3; Value: Wio-S3
footprint Wio-S3 Wireless Module
pins: 1 GPIO47, 2 GPIO38, 3 GPIO39, 4 GPIO40, 5 GPIO41, 6 GPIO42, 7 GPIO43/UART0_TX, 8 GPIO44/UART0_RX, 9 GPIO45, 10 GPIO46, 11 GPIO3, 12 GPIO2, 13 GPIO1, 14 BOOT, 15 RST, 16 GND, 17 GND, 18 WIFI/BT_ANT/NC, 19 GND, 20 GND, 21 VCC, 22 GND, 23 GND, 24 GPIO11, 25 GPIO10, 26 GPIO12, 27 GPIO13, 28 GPIO14, 29 GPIO15, 30 GPIO16, 31 GPIO17, 32 GPIO18, 33 GPIO19/USB_DM, 34 GPIO20/USB_DP, 35 GPIO48, 36 GND, 37 LORA_ANT, 38 GND, 39 GND

## XTAL_SMD1612_40MHz_8pF
designator X?, comment 40MHz
XTAL SMD 1612, 40MHz, Cl=8pF, Total Tol: ±10ppm; Part Number: XTAL_SMD1612_40MHz_8pF; Manufacturer: Abracon Corporation; Manufacturer Part Number: ABM12W-40.0000MHZ-8-B1U-T3; Part number NEMS: 101600095; Pad Count: 4; Note: XTAL SMD 40.000MHz 8pF; Artikkelnr Noca: N.A.; Component Status: Active; Component Class: Oscillators; Author: prbu; ComponentLink1URL: https://www.digikey.com/en/products/detail/abracon-llc/ABM12W-40-0000MHZ-8-B1U-T3/7172762; ComponentLink1Description: Datasheet; ComponentLink2URL: https://www.mouser.com/ProductDetail/ABRACON/ABM12W-400000MHZ-8-B1U-T3?qs=5aG0NVq1C4xvMMZKQsjLcA%3D%3D; ComponentLink2Description: Supplier link; HelpURL: N.A.; Footprint Doc: XTAL_1612; LatestRevisionDate: 2022-01-20; Published: 2022-01-20; Value: 40MHz; Supplier 1: Digi-Key; Supplier Part Number 1: 535-13991-2-ND; Supplier 2: N.A.; Supplier Part Number 2: N.A.; Part number IPS: N.A.; Part number Norautron: N.A.; PartId: 101600095
footprint BT-XTAL_1612
pins: 1 inp, 2 GND hidden to GND, 3 out, 4 GND hidden to GND

## XTAL_SMD1612_40MHz_8pF_1
designator X?, comment 40MHz
XTAL SMD 1612, 40MHz, Cl=8pF, Total Tol: ±10ppm; Part Number: XTAL_SMD1612_40MHz_8pF; Manufacturer: Abracon Corporation; Manufacturer Part Number: ABM12W-40.0000MHZ-8-B1U-T3; Part number NEMS: 101600095; Pad Count: 4; Note: XTAL SMD 40.000MHz 8pF; Artikkelnr Noca: N.A.; Component Status: Active; Component Class: Oscillators; Author: prbu; ComponentLink1URL: https://www.digikey.com/en/products/detail/abracon-llc/ABM12W-40-0000MHZ-8-B1U-T3/7172762; ComponentLink1Description: Datasheet; ComponentLink2URL: https://www.mouser.com/ProductDetail/ABRACON/ABM12W-400000MHZ-8-B1U-T3?qs=5aG0NVq1C4xvMMZKQsjLcA%3D%3D; ComponentLink2Description: Supplier link; HelpURL: N.A.; Footprint Doc: XTAL_1612; LatestRevisionDate: 2022-01-20; Published: 2022-01-20; Value: 40MHz; Supplier 1: Digi-Key; Supplier Part Number 1: 535-13991-2-ND; Supplier 2: N.A.; Supplier Part Number 2: N.A.; Part number IPS: N.A.; Part number Norautron: N.A.; PartId: 101600095
footprint BT-XTAL_1612
pins: 1 inp, 2 GND hidden to GND, 3 out, 4 GND hidden to GND

## XTAL_SMD2012_32.768kHz_9pF_Golledge
designator X?, comment 32.768kHz
XTAL SMD 2012, 32.768kHz, 9pF, ±20ppm; Part Number: XTAL_SMD2012_32.768kHz_9pF_Golledge; Manufacturer: Golledge; Manufacturer Part Number: MP07668; Part number Norautron: 26470047; Part number NEMS: 101600017; Pad Count: 2; Artikkelnr Noca: N.A.; Note: XTAL SMD 32.768kHz; Component Status: Active; Value: 32.768kHz; Footprint Doc: XTAL_2012; Component Class: Oscillators; Author: rsk; ComponentLink1Description: Datasheet; ComponentLink1URL: N.A.; ComponentLink2Description: Supplier link; ComponentLink2URL: N.A.; HelpURL: \\hizz\pro\app9717\Datasheet\crystals\Golledge\mp07668.pdf; LatestRevisionDate: 2016-11-02; PartId: 101600017; Part number IPS: N.A.; Published: 2016-11-02; Supplier 1: Link Nordic; Supplier 2: N.A.; Supplier Part Number 1: N.A.; Supplier Part Number 2: N.A.
footprint XTAL_2012
pins: 1 inp, 2 out

## XTAL_SMD2012_32.768kHz_9pF_Golledge_1
designator X?, comment 32.768kHz
XTAL SMD 2012, 32.768kHz, 9pF, ±20ppm; Part Number: XTAL_SMD2012_32.768kHz_9pF_Golledge; Manufacturer: Golledge; Manufacturer Part Number: MP07668; Part number Norautron: 26470047; Part number NEMS: 101600017; Pad Count: 2; Artikkelnr Noca: N.A.; Note: XTAL SMD 32.768kHz; Component Status: Active; Value: 32.768kHz; Footprint Doc: XTAL_2012; Component Class: Oscillators; Author: rsk; ComponentLink1Description: Datasheet; ComponentLink1URL: N.A.; ComponentLink2Description: Supplier link; ComponentLink2URL: N.A.; HelpURL: \\hizz\pro\app9717\Datasheet\crystals\Golledge\mp07668.pdf; LatestRevisionDate: 2016-11-02; PartId: 101600017; Part number IPS: N.A.; Published: 2016-11-02; Supplier 1: Link Nordic; Supplier 2: N.A.; Supplier Part Number 1: N.A.; Supplier Part Number 2: N.A.
footprint XTAL_2012
pins: 1 inp, 2 out

## XTAL_SMD2016_32MHz_8pF_Kyocera_SA
designator X?, comment 32MHz
XTAL SMD 2016, 32MHz, Cl=8pF, ±30ppm, -40°C ~ 105°C; Part Number: XTAL_SMD2016_32MHz_8pF_Kyocera_SA; Manufacturer: Kyocera; Manufacturer Part Number: CX2016SA32000D0WRQG1; Part number NEMS: 101600100; Pad Count: 4; Artikkelnr Noca: N.A.; Note: XTAL SMD 32.000MHz; Component Status: Active; Value: 32MHz; Footprint Doc: XTAL_2016; Component Class: Oscillators; Author: hany; ComponentLink1Description: Datasheet; ComponentLink1URL: N.A.; ComponentLink2Description: Supplier link; ComponentLink2URL: N.A.; HelpURL: N.A.; LatestRevisionDate: 2022-09-19; PartId: 101600100; Part number IPS: N.A.; Part number Norautron: N.A.; Published: 2022-09-19; Supplier 1: N.A.; Supplier 2: N.A.; Supplier Part Number 1: N.A.; Supplier Part Number 2: N.A.
footprint BT-XTAL_2016
pins: 1 inp, 2 GND hidden to GND, 3 out, 4 GND hidden to GND

## XTAL_SMD2016_32MHz_8pF_Kyocera_SA_1
designator X?, comment 32MHz
XTAL SMD 2016, 32MHz, Cl=8pF, ±30ppm, -40°C ~ 105°C; Part Number: XTAL_SMD2016_32MHz_8pF_Kyocera_SA; Manufacturer: Kyocera; Manufacturer Part Number: CX2016SA32000D0WRQG1; Part number NEMS: 101600100; Pad Count: 4; Artikkelnr Noca: N.A.; Note: XTAL SMD 32.000MHz; Component Status: Active; Value: 32MHz; Footprint Doc: XTAL_2016; Component Class: Oscillators; Author: hany; ComponentLink1Description: Datasheet; ComponentLink1URL: N.A.; ComponentLink2Description: Supplier link; ComponentLink2URL: N.A.; HelpURL: N.A.; LatestRevisionDate: 2022-09-19; PartId: 101600100; Part number IPS: N.A.; Part number Norautron: N.A.; Published: 2022-09-19; Supplier 1: N.A.; Supplier 2: N.A.; Supplier Part Number 1: N.A.; Supplier Part Number 2: N.A.
footprint BT-XTAL_2016
pins: 1 inp, 2 GND hidden to GND, 3 out, 4 GND hidden to GND